# EAGLE library part NRF24L01 (library IC)
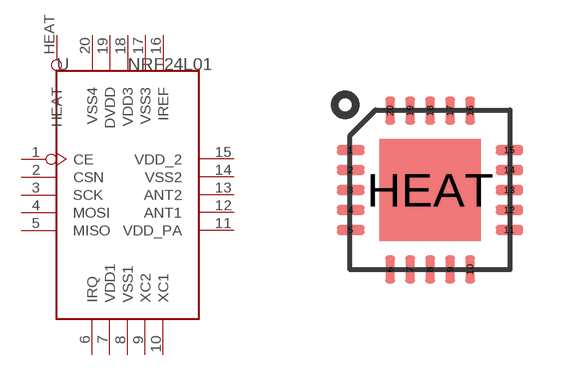
[diagram p112: symbol with the pads of QFN20; footprint QFN20]

Designator prefix U

## NRF24L01  [QFN20]
1  CE
2  CSN
3  SCK
4  MOSI
5  MISO
6  IRQ
7  VDD1
8  VSS1
9  XC2
10  XC1
11  VDD_PA
12  ANT1
13  ANT2
14  VSS2
15  VDD_2
16  IREF
17  VSS3
18  VDD3
19  DVDD
20  VSS4
HEAT  HEAT

## Footprint QFN20 (pad centres in mm)
smd 0.686 x 0.241: 1 -3.986,1.25; 2 -3.986,0.75; 3 -3.986,0.25; 4 -3.986,-0.25; 5 -3.986,-0.75; 11 -0.013,-0.75; 12 -0.013,-0.25; 13 -0.013,0.25; 14 -0.013,0.75; 15 -0.013,1.25
smd 0.241 x 0.686: 6 -3,-1.736; 7 -2.5,-1.736; 8 -2,-1.736; 9 -1.5,-1.736; 10 -1,-1.736; 16 -1,2.236; 17 -1.5,2.236; 18 -2,2.236; 19 -2.5,2.236; 20 -3,2.236
smd 2.54 x 2.54: HEAT -2,0.25